# EAGLE library part I__DVR8332 (library ..SMD)
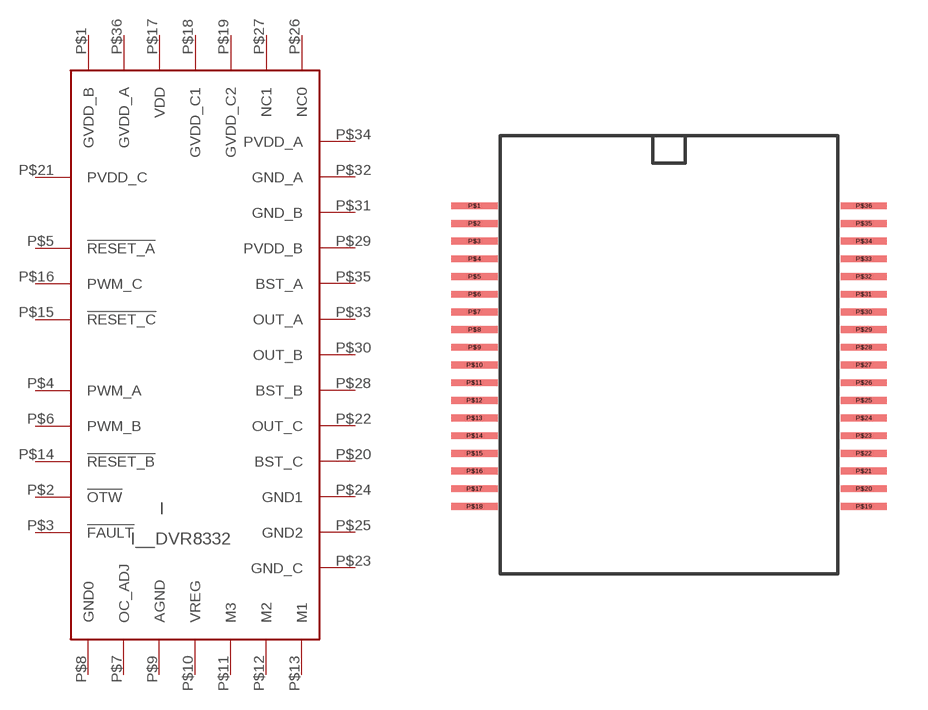
[diagram p365: symbol with the pads of DRV8332; footprint DRV8332]

Designator prefix I

## I__DVR8332  [DRV8332]
P$1  GVDD_B  pwr
P$2  !OTW  out
P$3  !FAULT  out
P$4  PWM_A  in
P$5  !RESET_A  in
P$6  PWM_B  in
P$7  OC_ADJ  out
P$8  GND0  pwr
P$9  AGND  pwr
P$10  VREG  pwr
P$11  M3  in
P$12  M2  in
P$13  M1  in
P$14  !RESET_B  in
P$15  !RESET_C  in
P$16  PWM_C  in
P$17  VDD  pwr
P$18  GVDD_C1  pwr
P$19  GVDD_C2  pwr
P$20  BST_C  pwr
P$21  PVDD_C  pwr
P$22  OUT_C  out
P$23  GND_C  pwr
P$24  GND1  pwr
P$25  GND2  pwr
P$26  NC0  nc
P$27  NC1  nc
P$28  BST_B  pwr
P$29  PVDD_B  pwr
P$30  OUT_B  out
P$31  GND_B  pwr
P$32  GND_A  pwr
P$33  OUT_A  out
P$34  PVDD_A  pwr
P$35  BST_A  pwr
P$36  GVDD_A  pwr

## Footprint DRV8332 (pad centres in mm)
smd 1.7 x 0.25: P$1 -7.15,5.525; P$2 -7.15,4.875; P$3 -7.15,4.225; P$4 -7.15,3.575; P$5 -7.15,2.925; P$6 -7.15,2.275; P$7 -7.15,1.625; P$8 -7.15,0.975; P$9 -7.15,0.325; P$10 -7.15,-0.325; P$11 -7.15,-0.975; P$12 -7.15,-1.625; P$13 -7.15,-2.275; P$14 -7.15,-2.925; P$15 -7.15,-3.575; P$16 -7.15,-4.225; P$17 -7.15,-4.875; P$18 -7.15,-5.525; P$19 7.15,-5.525; P$20 7.15,-4.875; P$21 7.15,-4.225; P$22 7.15,-3.575; P$23 7.15,-2.925; P$24 7.15,-2.275; P$25 7.15,-1.625; P$26 7.15,-0.975; P$27 7.15,-0.325; P$28 7.15,0.325; P$29 7.15,0.975; P$30 7.15,1.625; P$31 7.15,2.275; P$32 7.15,2.925; P$33 7.15,3.575; P$34 7.15,4.225; P$35 7.15,4.875; P$36 7.15,5.525